# Altium schematic symbol library ComponentesTesis.SchLib: 8 symbols
Pins are listed as number, name and electrical type; pins without a type are passive.

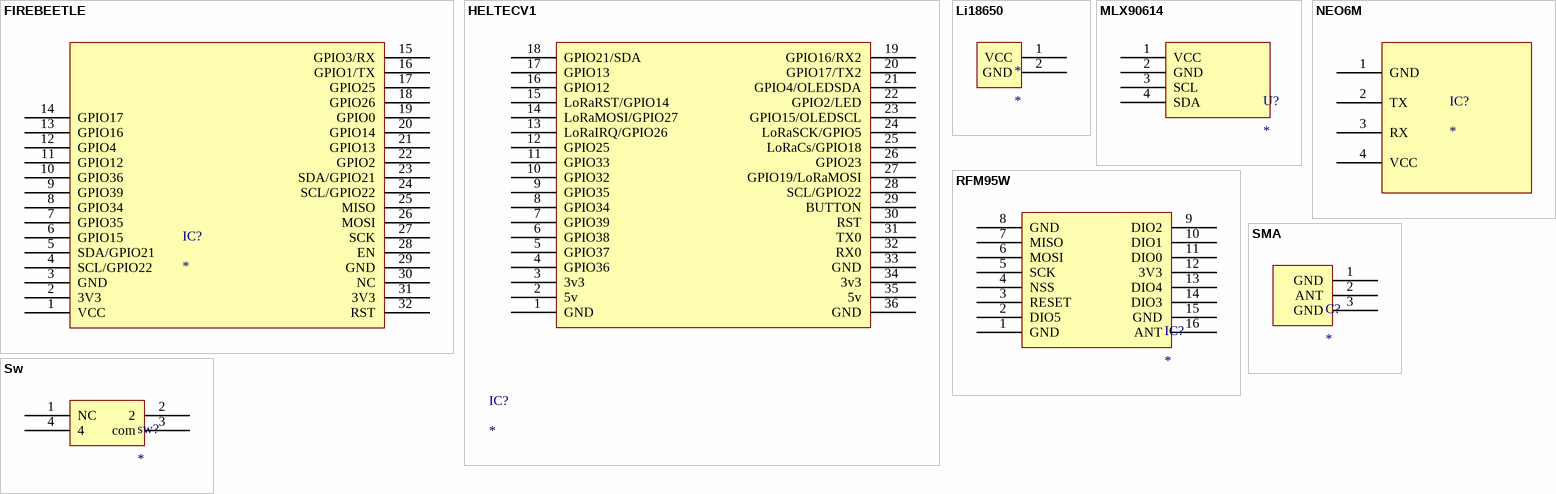
[diagram p0: symbols FIREBEETLE to Sw]

## FIREBEETLE
designator IC?
footprint FIREBEETLE
pins: 1 VCC (power), 2 3V3 (power), 3 GND (power), 4 SCL/GPIO22 (power), 5 SDA/GPIO21 (power), 6 GPIO15 (power), 7 GPIO35 (power), 8 GPIO34 (power), 9 GPIO39 (power), 10 GPIO36 (power), 11 GPIO12 (power), 12 GPIO4 (power), 13 GPIO16 (power), 14 GPIO17 (power), 15 GPIO3/RX (power), 16 GPIO1/TX (power), 17 GPIO25 (power), 18 GPIO26 (power), 19 GPIO0 (power), 20 GPIO14 (power), 21 GPIO13 (power), 22 GPIO2 (power), 23 SDA/GPIO21 (power), 24 SCL/GPIO22 (power), 25 MISO (power), 26 MOSI (power), 27 SCK (power), 28 EN (power), 29 GND (power), 30 NC (power), 31 3V3 (power), 32 RST (power)

## HELTECV1
designator IC?
ESP32 LORA BASED MCU
footprint HELTECV1 (ESP32 BASED MCU)
pins: 1 GND (power), 2 5v (power), 3 3v3 (power), 4 GPIO36 (power), 5 GPIO37 (power), 6 GPIO38 (power), 7 GPIO39 (power), 8 GPIO34 (power), 9 GPIO35 (power), 10 GPIO32 (power), 11 GPIO33 (power), 12 GPIO25 (power), 13 LoRaIRQ/GPIO26 (power), 14 LoRaMOSI/GPIO27 (power), 15 LoRaRST/GPIO14 (power), 16 GPIO12 (power), 17 GPIO13 (power), 18 GPIO21/SDA (power), 19 GPIO16/RX2 (power), 20 GPIO17/TX2 (power), 21 GPIO4/OLEDSDA (power), 22 GPIO2/LED (power), 23 GPIO15/OLEDSCL (power), 24 LoRaSCK/GPIO5 (power), 25 LoRaCs/GPIO18 (power), 26 GPIO23 (power), 27 GPIO19/LoRaMOSI (power), 28 SCL/GPIO22 (power), 29 BUTTON (power), 30 RST (power), 31 TX0 (power), 32 RX0 (power), 33 GND (power), 34 3v3 (power), 35 5v (power), 36 GND (power)

## Li18650
designator *
footprint Li18650
pins: 1 VCC (power), 2 GND

## MLX90614
designator U?
iR SENSOR TEMPERATURA
footprint IRSENSOR
pins: 1 VCC (power), 2 GND (power), 3 SCL, 4 SDA

## NEO6M
designator IC?
GPS NEO6M
footprint NEO6M
pins: 1 GND (power), 2 TX, 3 RX, 4 VCC

## RFM95W
designator IC?
footprint RFM95W
pins: 1 GND (power), 2 DIO5, 3 RESET, 4 NSS, 5 SCK, 6 MOSI, 7 MISO, 8 GND (power), 9 DIO2, 10 DIO1, 11 DIO0, 12 3V3 (power), 13 DIO4, 14 DIO3, 15 GND (power), 16 ANT

## SMA
designator C?
footprint SMA
pins: 1 GND, 2 ANT, 3 GND

## Sw
designator sw?
footprint InterruptorSMD
pins: 1 NC, 2, 3 com, 4